# Altium schematic symbol library CRYSTAL 4PIN_2.Schlib: 1 symbol
Pins are listed as number, name and electrical type; pins without a type are passive.

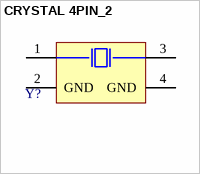
[diagram p0: symbol CRYSTAL 4PIN_2]

## CRYSTAL 4PIN_2
designator Y?
pins: 1, 2 GND, 3, 4 GND